# EAGLE library part AD527* (library Analog Devices)
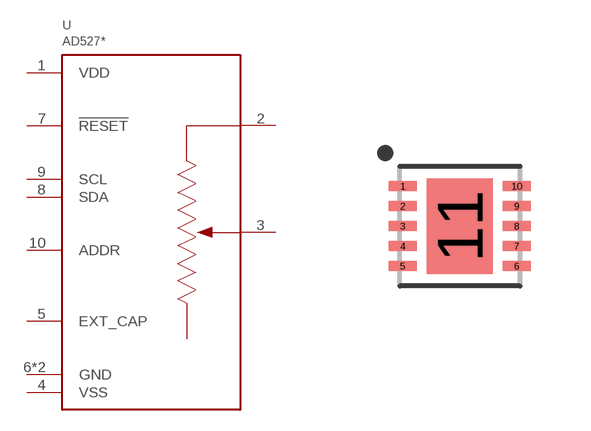
[diagram p40: symbol with the pads of DFN10; footprint DFN10]

Designator prefix U

## AD5272-100, AD5272-20, AD5274-100, AD5274-20  [DFN10]
1  VDD
2  A
3  W
4  VSS
5  EXT_CAP
6  GND
7  !RESET
8  SDA
9  SCL
10  ADDR
11  GND

## Footprint DFN10 (pad centres in mm)
smd 0.7 x 0.25: 1 -1.425,1; 2 -1.425,0.5; 3 -1.425,0; 4 -1.425,-0.5; 5 -1.425,-1; 6 1.425,-1; 7 1.425,-0.5; 8 1.425,0; 9 1.425,0.5; 10 1.425,1
smd 1.65 x 2.38: 11 0,0